# EAGLE library part T20W80 (library EfinixTrio)
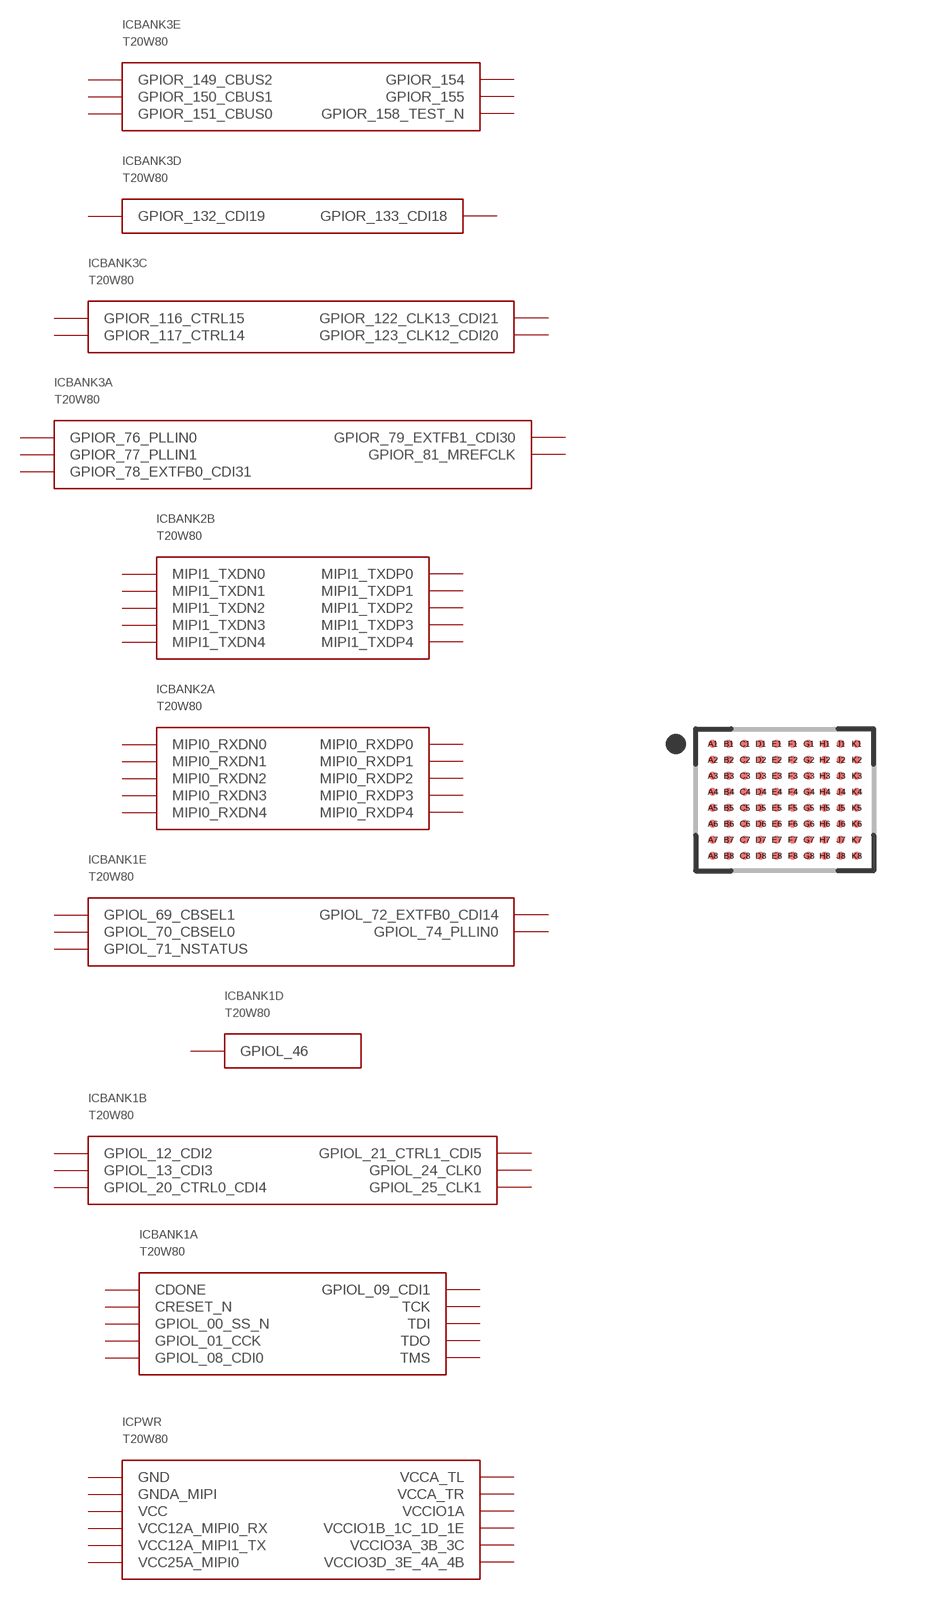
[diagram p5: symbol with the pads of WLCSP80; footprint WLCSP80]

Designator prefix IC; gates PWR=T20W80PWR BANK1A=T20W80BANK1A BANK1B=T20W80BANK1B BANK1D=T20W80BANK1D BANK1E=T20W80BANK1E BANK2A=T20W80BANK2A BANK2B=T20W80BANK2B BANK3A=T20W80BANK3A BANK3C=T20W80BANK3C BANK3D=T20W80BANK3D BANK3E=T20W80BANK3E

## T20W80  [WLCSP80]
A1  PWR:GND  pwr
A2  BANK1E:GPIOL_74_PLLIN0
A3  PWR:VCC12A_MIPI0_RX  pwr
A4  BANK2A:MIPI0_RXDN3
A5  BANK2A:MIPI0_RXDN4
A6  BANK2A:MIPI0_RXDP4
A7  BANK2B:MIPI1_TXDN4
A8  PWR:GND  pwr
B1  PWR:VCCA_TL  pwr
B2  BANK1E:GPIOL_72_EXTFB0_CDI14
B3  PWR:VCC25A_MIPI0  pwr
B4  BANK2A:MIPI0_RXDP3
B5  BANK2B:MIPI1_TXDP0
B6  BANK2B:MIPI1_TXDN1
B7  BANK2B:MIPI1_TXDP4
B8  BANK2B:MIPI1_TXDN3
C1  BANK1E:GPIOL_69_CBSEL1
C2  BANK2A:MIPI0_RXDP0
C3  BANK2A:MIPI0_RXDN0
C4  PWR:GNDA_MIPI  pwr
C5  BANK2B:MIPI1_TXDN0
C6  BANK2B:MIPI1_TXDP1
C7  BANK2B:MIPI1_TXDN2
C8  BANK2B:MIPI1_TXDP3
D1  BANK1E:GPIOL_70_CBSEL0
D2  BANK2A:MIPI0_RXDP1
D3  BANK2A:MIPI0_RXDN1
D4  BANK2A:MIPI0_RXDN2
D5  PWR:GNDA_MIPI  pwr
D6  PWR:VCC12A_MIPI1_TX  pwr
D7  BANK2B:MIPI1_TXDP2
D8  PWR:VCCA_TR  pwr
E1  BANK1E:GPIOL_71_NSTATUS
E2  BANK1D:GPIOL_46
E3  BANK2A:MIPI0_RXDP2
E4  PWR:VCC  pwr
E5  PWR:GND  pwr
E6  PWR:VCC  pwr
E7  BANK3A:GPIOR_76_PLLIN0
E8  BANK3A:GPIOR_81_MREFCLK
F1  BANK1B:GPIOL_25_CLK1
F2  BANK1B:GPIOL_21_CTRL1_CDI5
F3  PWR:VCC  pwr
F4  PWR:GND  pwr
F5  PWR:VCC  pwr
F6  PWR:VCCIO3A_3B_3C  pwr
F7  BANK3A:GPIOR_77_PLLIN1
F8  BANK3A:GPIOR_78_EXTFB0_CDI31
G1  BANK1B:GPIOL_24_CLK0
G2  BANK1B:GPIOL_20_CTRL0_CDI4
G3  PWR:VCCIO1B_1C_1D_1E  pwr
G4  BANK1A:TCK
G5  PWR:VCCIO3D_3E_4A_4B  pwr
G6  BANK3A:GPIOR_79_EXTFB1_CDI30
G7  BANK3C:GPIOR_116_CTRL15
G8  BANK3D:GPIOR_132_CDI19
H1  BANK1B:GPIOL_13_CDI3
H2  BANK1B:GPIOL_12_CDI2
H3  BANK1A:TDO
H4  BANK1A:TMS
H5  BANK3C:GPIOR_117_CTRL14
H6  BANK3C:GPIOR_122_CLK13_CDI21
H7  BANK3D:GPIOR_133_CDI18
H8  BANK3E:GPIOR_149_CBUS2
J1  BANK1A:GPIOL_08_CDI0
J2  BANK1A:GPIOL_09_CDI1
J3  BANK1A:TDI
J4  PWR:VCCIO1A  pwr
J5  BANK3C:GPIOR_123_CLK12_CDI20
J6  BANK3E:GPIOR_154
J7  BANK3E:GPIOR_151_CBUS0
J8  BANK3E:GPIOR_150_CBUS1
K1  PWR:GND  pwr
K2  BANK1A:GPIOL_01_CCK
K3  BANK1A:GPIOL_00_SS_N
K4  BANK1A:CRESET_N
K5  BANK1A:CDONE
K6  BANK3E:GPIOR_155
K7  BANK3E:GPIOR_158_TEST_N
K8  PWR:GND  pwr

## Footprint WLCSP80 (pad centres in mm)
smd 0.2 x 0.2: A1 -1.8,1.4; A2 -1.8,1; A3 -1.8,0.6; A4 -1.8,0.2; A5 -1.8,-0.2; A6 -1.8,-0.6; A7 -1.8,-1; A8 -1.8,-1.4; B1 -1.4,1.4; B2 -1.4,1; B3 -1.4,0.6; B4 -1.4,0.2; B5 -1.4,-0.2; B6 -1.4,-0.6; B7 -1.4,-1; B8 -1.4,-1.4; C1 -1,1.4; C2 -1,1; C3 -1,0.6; C4 -1,0.2; C5 -1,-0.2; C6 -1,-0.6; C7 -1,-1; C8 -1,-1.4; D1 -0.6,1.4; D2 -0.6,1; D3 -0.6,0.6; D4 -0.6,0.2; D5 -0.6,-0.2; D6 -0.6,-0.6; D7 -0.6,-1; D8 -0.6,-1.4; E1 -0.2,1.4; E2 -0.2,1; E3 -0.2,0.6; E4 -0.2,0.2; E5 -0.2,-0.2; E6 -0.2,-0.6; E7 -0.2,-1; E8 -0.2,-1.4; F1 0.2,1.4; F2 0.2,1; F3 0.2,0.6; F4 0.2,0.2; F5 0.2,-0.2; F6 0.2,-0.6; F7 0.2,-1; F8 0.2,-1.4; G1 0.6,1.4; G2 0.6,1; G3 0.6,0.6; G4 0.6,0.2; G5 0.6,-0.2; G6 0.6,-0.6; G7 0.6,-1; G8 0.6,-1.4; H1 1,1.4; H2 1,1; H3 1,0.6; H4 1,0.2; H5 1,-0.2; H6 1,-0.6; H7 1,-1; H8 1,-1.4; J1 1.4,1.4; J2 1.4,1; J3 1.4,0.6; J4 1.4,0.2; J5 1.4,-0.2; J6 1.4,-0.6; J7 1.4,-1; J8 1.4,-1.4; K1 1.8,1.4; K2 1.8,1; K3 1.8,0.6; K4 1.8,0.2; K5 1.8,-0.2; K6 1.8,-0.6; K7 1.8,-1; K8 1.8,-1.4